# Altium schematic symbol library Microprocessor ICs.SchLib: 1 symbol
Pins are listed as number, name and electrical type; pins without a type are passive.

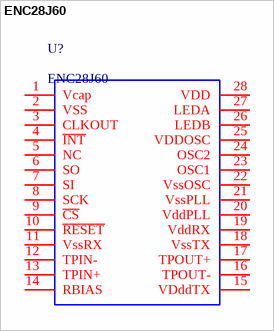
[diagram p0: symbol ENC28J60]

## ENC28J60
designator U?
footprint SOIC28_1.27_10.3
pins: 1 Vcap, 2 VSS, 3 CLKOUT, 4 ~{INT}, 5 NC, 6 SO, 7 SI, 8 SCK, 9 ~{CS}, 10 ~{RESET}, 11 VssRX, 12 TPIN-, 13 TPIN+, 14 RBIAS, 15 VDddTX, 16 TPOUT-, 17 TPOUT+, 18 VssTX, 19 VddRX, 20 VddPLL, 21 VssPLL, 22 VssOSC, 23 OSC1, 24 OSC2, 25 VDDOSC, 26 LEDB, 27 LEDA, 28 VDD